# EAGLE library part BMP280 (library BMP280)
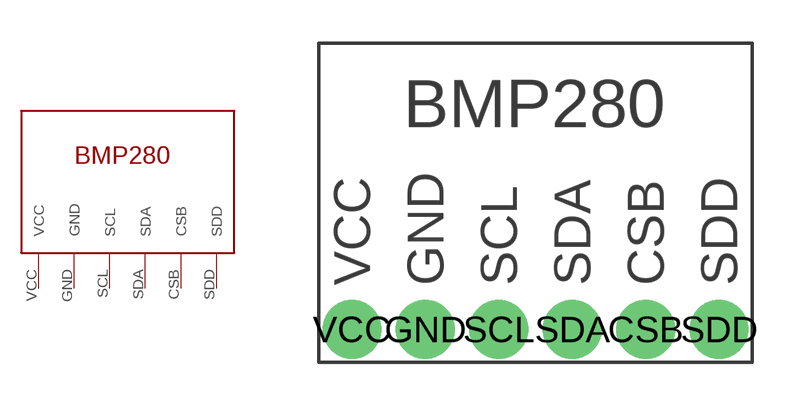
[diagram p0: symbol with the pads of BMP280; footprint BMP280]

Designator prefix -

## BMP280  [BMP280]
CSB  CSB
GND  GND
SCL  SCL
SDA  SDA
SDD  SDD
VCC  VCC

## Footprint BMP280 (pad centres in mm)
drill 1.016 pad 2.032: CSB 11.303,1.143; GND 3.683,1.143; SCL 6.223,1.143; SDA 8.763,1.143; SDD 13.843,1.143; VCC 1.143,1.143